# Altium schematic symbol library Trans,PNP,40V,600mA,SOT523.Schlib: 1 symbol
Pins are listed as number, name and electrical type; pins without a type are passive.

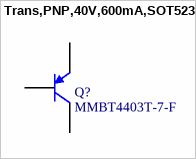
[diagram p0: symbol Trans,PNP,40V,600mA,SOT523]

## Trans,PNP,40V,600mA,SOT523
designator Q?, comment MMBT4403T-7-F
Bipolar (BJT) Transistor PNP 40 V 600 mA 200MHz 150 mW Surface Mount SOT-523
pins: 1 B, 2 E, 3 C